# Altium footprint library HARWIN_M80-5114242.PcbLib: 1 footprints
Each footprint in its own frame and in the unit in brackets; x right, y up, seen from the top. Pads: shape width x height; smd on the part's side, far side on the other; paste and mask are expansions set on the pad; w line width, h text height; cw(c..) or ccw(c..) is an arc to the next point about the centre after c.
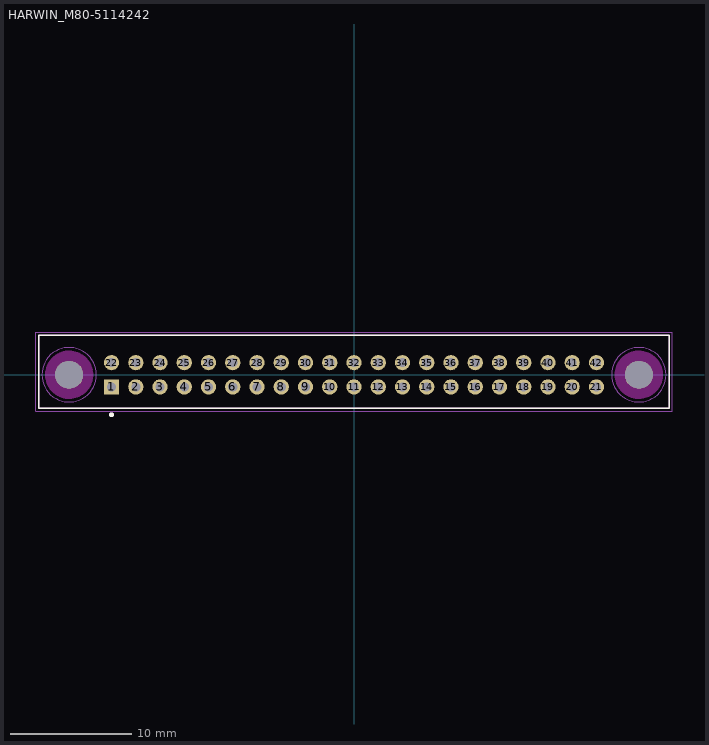
[diagram p0: the footprint, top view; thin cyan lines are the x and y axes]

## HARWIN_M80-5114242 [mm]
pads (44):
  rect 1.258x1.258 / inner round 1.258 / far side rect 1.258x1.258 hole 0.75: 1(-20,-1)
  round 1.258 hole 0.75: 2(-18,-1) 3(-16,-1) 4(-14,-1) 5(-12,-1) 6(-10,-1) 7(-8,-1) 8(-6,-1) 9(-4,-1) 10(-2,-1) 11(0,-1) 12(2,-1) 13(4,-1) 14(6,-1) 15(8,-1) 16(10,-1) 17(12,-1) 18(14,-1) 19(16,-1) 20(18,-1) 21(20,-1) 22(-20,1) 23(-18,1) 24(-16,1) 25(-14,1) 26(-12,1) 27(-10,1) 28(-8,1) 29(-6,1) 30(-4,1) 31(-2,1) 32(0,1) 33(2,1) 34(4,1) 35(6,1) 36(8,1) 37(10,1) 38(12,1) 39(14,1) 40(16,1) 41(18,1) 42(20,1)
  round 2.3 hole 2.3 unplated: ""(-23.5,0) ""(23.5,0)
Top Overlay:
  circle w0.2: c-20,-3.3 r0.1
  lines w0.127: -26,-2.775 26,-2.775 26,3.275 -26,3.275 -26,-2.775
Keep-Out Layer:
  circle w2: c23.5,0 r1
  circle w2: c-23.5,0 r1
  circle w2: c-23.5,0 r1
  circle w2: c23.5,0 r1
Mechanical 13:
  circle w0.2: c-20,-3.3 r0.1
  lines w0.127: -26,-2.775 26,-2.775 26,3.275 -26,3.275 -26,-2.775
Mechanical 15:
  lines w0.05: -26.25,-3.025 -26.25,3.525 26.25,3.525 26.25,-3.025 -26.25,-3.025
Mechanical 16:
  circle w0.05: c23.5,0 r2.25
  circle w0.05: c-23.5,0 r2.25
3D body "M80-5114242_asm.stp": height 5.15, standoff -6.45, extent -25.983,-2.775 25.983,3.275